# Altium schematic symbol library SCH - CONNECTORS - COAX CONNECTOR.SCHLIB: 1 symbol
Pins are listed as number, name and electrical type; pins without a type are passive.

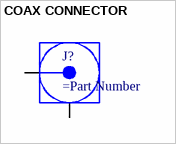
[diagram p0: symbol COAX CONNECTOR]

## COAX CONNECTOR
designator J?
pins: G GND, S Signal "Signal Pin"